# Altium footprint library MOLEX_0022112022.PcbLib: 1 footprints
Each footprint in its own frame and in the unit in brackets; x right, y up, seen from the top. Pads: shape width x height; smd on the part's side, far side on the other; paste and mask are expansions set on the pad; w line width, h text height; cw(c..) or ccw(c..) is an arc to the next point about the centre after c.
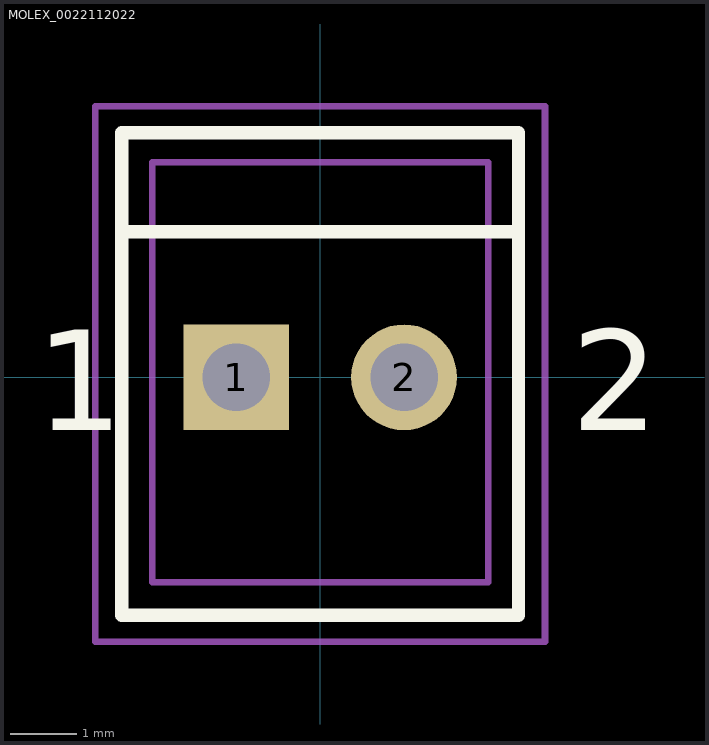
[diagram p0: the footprint, top view; thin cyan lines are the x and y axes]

## MOLEX_0022112022 [mm]
pads (2):
  rect 1.6x1.6 hole 1.02: 1(-1.27,0)
  round 1.6 hole 1.02: 2(1.27,0)
Top Overlay:
  lines w0.2: -3,2.2 3,2.2 ; -3,-3.6 3,-3.6 3,3.7 -3,3.7 -3,-3.6
  text "1" at -4.3,-0.8 h1.52
  text "2" at 3.8,-0.8 h1.52
Mechanical 13:
  lines w0.1: -2.54,-3.099 2.54,-3.099 2.54,3.251 -2.54,3.251 -2.54,-3.099
Mechanical 15:
  lines w0.1: -3.4,-4 3.4,-4 3.4,4.1 -3.4,4.1 -3.4,-4
3D body: height 10.6, standoff -3.62, extent -2.54,-3.099 2.54,3.251